# Altium schematic symbol library COPAL_trimmer_20k_smd.SchLib: 1 symbol
Pins are listed as number, name and electrical type; pins without a type are passive.

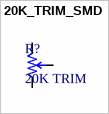
[diagram p0: symbol 20K_TRIM_SMD]

## 20K_TRIM_SMD
designator R?, comment 20K TRIM
TRIMMER 20K OHM 0.125W SMD; Supplier 1: Digikey; Supplier Part Number 1: ST32ETA203CT-ND
footprint 20k_trimmer_smd (20K Trim-Pot, 3 J-lead SMD)
pins: 1, 2, 3